# Altium footprint library Leadless.PcbLib: 76 footprints (part 4 of 5)
Each footprint in its own frame and in the unit in brackets; x right, y up, seen from the top. Pads: shape width x height; smd on the part's side, far side on the other; paste and mask are expansions set on the pad; w line width, h text height; cw(c..) or ccw(c..) is an arc to the next point about the centre after c.
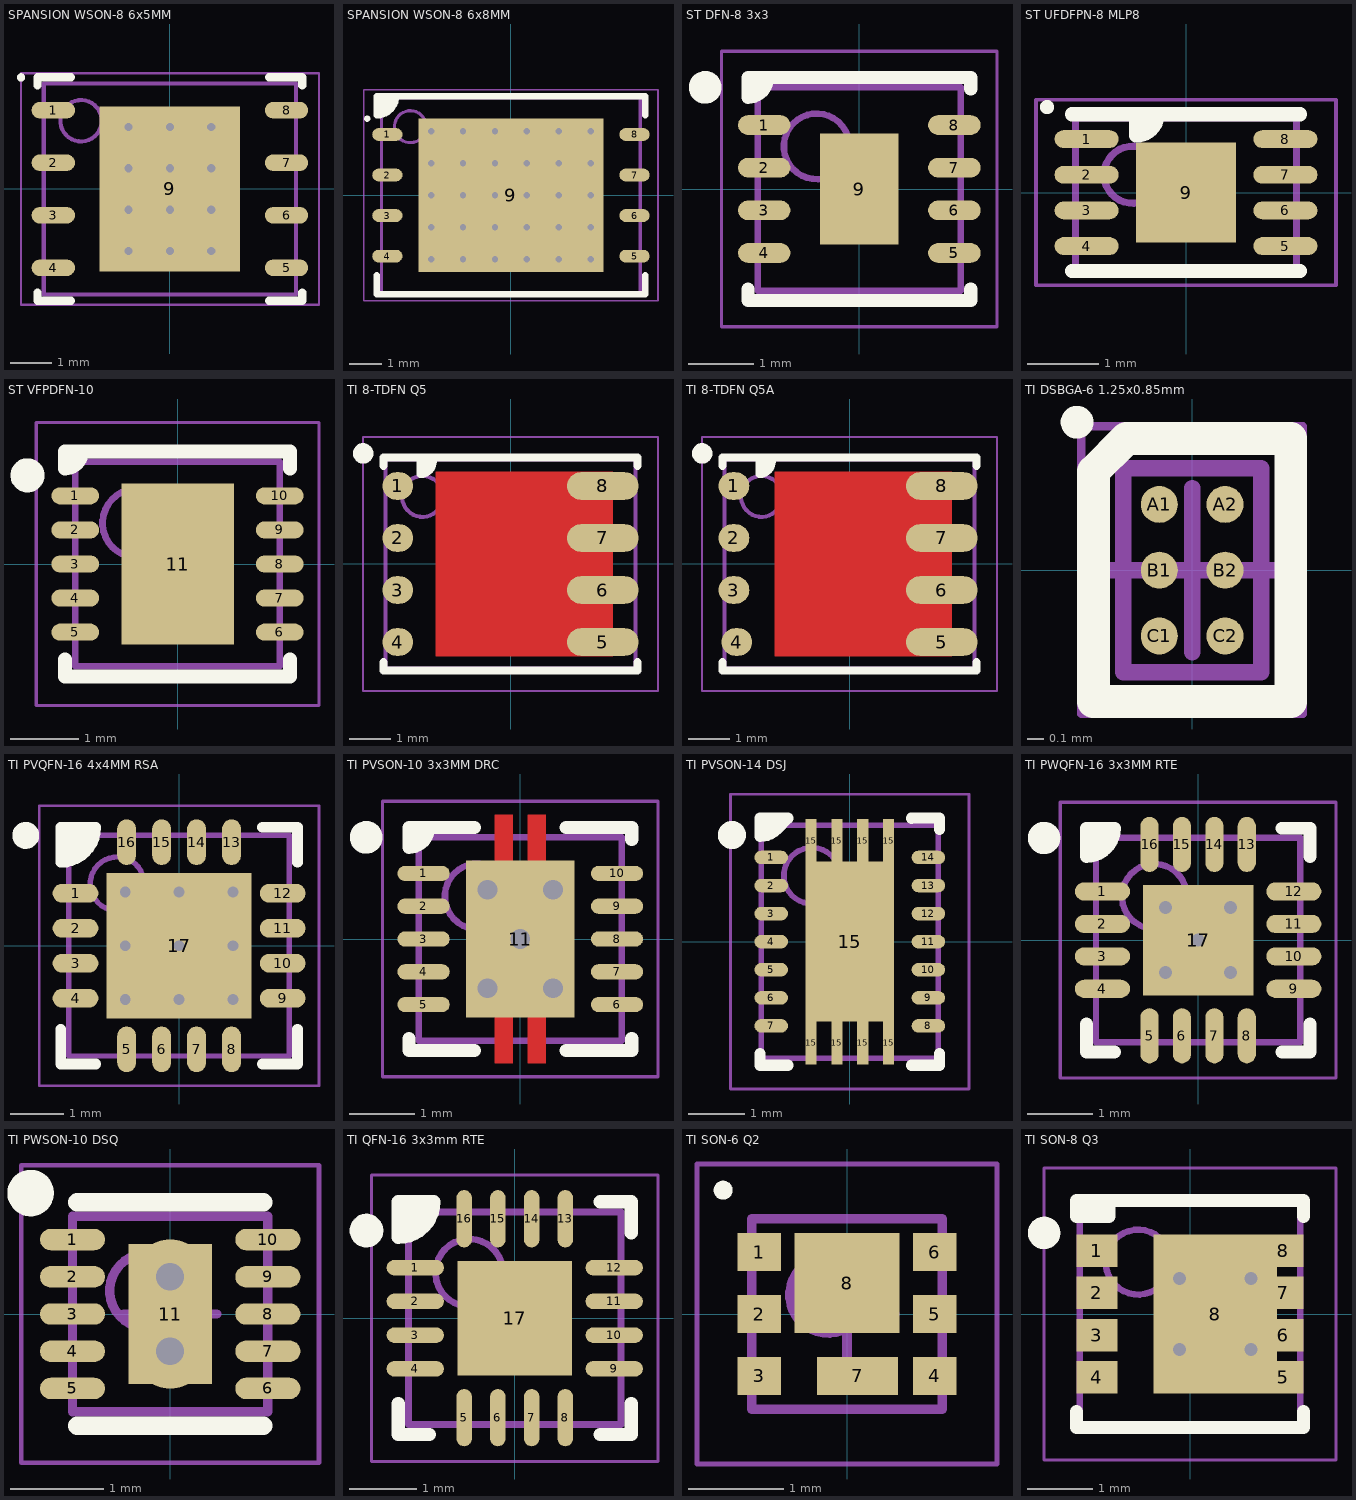
[diagram p3: the footprints below, top view; thin cyan lines are the x and y axes]

## SPANSION WSON-8 6x5MM [mm] "SON, 8-Leads, Body 5.00x6.00mm, Pitch 1.27mm, Thermal Pad 4.00x3.40mm, IPC Medium Density"
height 0.8
pads (9):
  oval 1.05x0.4 smd: 1(-2.82,1.905) 2(-2.82,0.635) 3(-2.82,-0.635) 4(-2.82,-1.905) 5(2.82,-1.905) 6(2.82,-0.635) 7(2.82,0.635) 8(2.82,1.905)
  rect 3.4x4 smd paste-1.7 mask+0: 9(0,0)
via 1,-1.5 diameter 0.5 hole 0.2
via 0,-1.5 diameter 0.5 hole 0.2
via -1,-1.5 diameter 0.5 hole 0.2
via 1,-0.5 diameter 0.5 hole 0.2
via 0,-0.5 diameter 0.5 hole 0.2
via -1,-0.5 diameter 0.5 hole 0.2
via 1,0.5 diameter 0.5 hole 0.2
via 0,0.5 diameter 0.5 hole 0.2
via -1,0.5 diameter 0.5 hole 0.2
via 1,1.5 diameter 0.5 hole 0.2
via 0,1.5 diameter 0.5 hole 0.2
via -1,1.5 diameter 0.5 hole 0.2
Top Overlay:
  circle w0.1: c-3.6,2.7 r0.05
  lines w0.2: -3.2,-2.505 -3.2,-2.7 -2.395,-2.7 ; -3.2,2.505 -3.2,2.7 -2.395,2.7 ; 2.395,-2.7 3.2,-2.7 3.2,-2.505 ; 2.395,2.7 3.2,2.7 3.2,2.505
Top Paste:
  rectangle: 0.665,-1.895 1.595,-0.765
  rectangle: 0.665,-0.565 1.595,0.565
  rectangle: 0.665,0.765 1.595,1.895
  rectangle: -0.465,-1.895 0.465,-0.765
  rectangle: -0.465,-0.565 0.465,0.565
  rectangle: -0.465,0.765 0.465,1.895
  rectangle: -1.595,-1.895 -0.665,-0.765
  rectangle: -1.595,-0.565 -0.665,0.565
  rectangle: -1.595,0.765 -0.665,1.895
Mechanical 13:
  circle w0.1: c-2.15,1.65 r0.5
  lines w0.1: -3.05,-2.55 3.05,-2.55 3.05,2.55 -3.05,2.55 -3.05,-2.55
Mechanical 15:
  lines w0.05: -3.605,-2.8 3.605,-2.8 3.605,2.8 -3.605,2.8 -3.605,-2.8
  lines w0.1: -0.5,0 0.5,0 ; 0,-0.5 0,0.5
3D body: height 0.8, standoff 0, extent -3.05,-2.55 3.05,2.55

## SPANSION WSON-8 6x8MM [mm] "SON, 8-Leads, Body 6.00x8.00mm, Pitch 1.27mm, Thermal Pad 4.80x5.80mm, IPC Medium Density"
height 0.8
pads (9):
  oval 0.95x0.4 smd: 1(-3.87,1.905) 2(-3.87,0.635) 3(-3.87,-0.635) 4(-3.87,-1.905) 5(3.87,-1.905) 6(3.87,-0.635) 7(3.87,0.635) 8(3.87,1.905)
  rect 5.8x4.8 smd paste-2.9 mask+0: 9(0,0)
via 2.5,-2 diameter 0.5 hole 0.2
via 1.5,-2 diameter 0.5 hole 0.2
via 0.5,-2 diameter 0.5 hole 0.2
via -0.5,-2 diameter 0.5 hole 0.2
via -1.5,-2 diameter 0.5 hole 0.2
via -2.5,-2 diameter 0.5 hole 0.2
via 2.5,-1 diameter 0.5 hole 0.2
via 1.5,-1 diameter 0.5 hole 0.2
via 0.5,-1 diameter 0.5 hole 0.2
via -0.5,-1 diameter 0.5 hole 0.2
via -1.5,-1 diameter 0.5 hole 0.2
via -2.5,-1 diameter 0.5 hole 0.2
via 2.5,0 diameter 0.5 hole 0.2
via 1.5,0 diameter 0.5 hole 0.2
via 0.5,0 diameter 0.5 hole 0.2
via -0.5,0 diameter 0.5 hole 0.2
via -1.5,0 diameter 0.5 hole 0.2
via -2.5,0 diameter 0.5 hole 0.2
via 2.5,1 diameter 0.5 hole 0.2
via 1.5,1 diameter 0.5 hole 0.2
via 0.5,1 diameter 0.5 hole 0.2
via -0.5,1 diameter 0.5 hole 0.2
via -1.5,1 diameter 0.5 hole 0.2
via -2.5,1 diameter 0.5 hole 0.2
via 2.5,2 diameter 0.5 hole 0.2
via 1.5,2 diameter 0.5 hole 0.2
via 0.5,2 diameter 0.5 hole 0.2
via -0.5,2 diameter 0.5 hole 0.2
via -1.5,2 diameter 0.5 hole 0.2
via -2.5,2 diameter 0.5 hole 0.2
Top Overlay:
  circle w0.1: c-4.5,2.4 r0.05
  region: -4.2,3.1 -3.588,3.1 -3.635,2.868 -3.766,2.671 -3.963,2.54 -4.195,2.493 -4.195,2.505 -4.2,2.505
  lines w0.2: -4.2,-2.505 -4.2,-3.1 4.2,-3.1 4.2,-2.505 ; -3.6,3.1 cw(c-4.195,3.1) -4.195,2.505 -4.2,2.505 -4.2,3.1 4.2,3.1 4.2,2.505
Top Paste:
  rectangle: 1.55,-2.3 2.8,-1.3
  rectangle: 1.55,-1.1 2.8,-0.1
  rectangle: 1.55,0.1 2.8,1.1
  rectangle: 1.55,1.3 2.8,2.3
  rectangle: 0.1,-2.3 1.35,-1.3
  rectangle: 0.1,-1.1 1.35,-0.1
  rectangle: 0.1,0.1 1.35,1.1
  rectangle: 0.1,1.3 1.35,2.3
  rectangle: -1.35,-2.3 -0.1,-1.3
  rectangle: -1.35,-1.1 -0.1,-0.1
  rectangle: -1.35,0.1 -0.1,1.1
  rectangle: -1.35,1.3 -0.1,2.3
  rectangle: -2.8,-2.3 -1.55,-1.3
  rectangle: -2.8,-1.1 -1.55,-0.1
  rectangle: -2.8,0.1 -1.55,1.1
  rectangle: -2.8,1.3 -1.55,2.3
Mechanical 13:
  circle w0.1: c-3.15,2.15 r0.5
  lines w0.1: -4.05,-3.05 4.05,-3.05 4.05,3.05 -4.05,3.05 -4.05,-3.05
Mechanical 15:
  lines w0.05: -4.605,-3.3 4.605,-3.3 4.605,3.3 -4.605,3.3 -4.605,-3.3
  lines w0.1: -0.5,0 0.5,0 ; 0,-0.5 0,0.5
3D body: height 0.8, standoff 0, extent -4.05,-3.05 4.05,3.05

## ST DFN-8 3x3 [mm] "DFN, 8-Leads, Body 3.00x3.00mm, Pitch 0.65mm, Thermal Pad 1.20x1.70mm, IPC Medium Density"
height 1
pads (9):
  oval 0.8x0.3 smd: 1(-1.45,0.975) 2(-1.45,0.325) 3(-1.45,-0.325) 4(-1.45,-0.975) 5(1.45,-0.975) 6(1.45,-0.325) 7(1.45,0.325) 8(1.45,0.975)
  rect 1.2x1.7 smd: 9(0,0)
Top Overlay:
  circle w0.25: c-2.35,1.55 r0.125
  region: -1.7,1.7 -1.4,1.7 -1.7,1.4
  lines w0.2: -1.7,-1.525 -1.7,-1.7 1.7,-1.7 1.7,-1.525 ; -1.4,1.7 cw(c-1.7,1.7) -1.7,1.4 -1.7,1.7 1.7,1.7 1.7,1.525
Mechanical 13:
  circle w0.1: c-0.65,0.65 r0.5
  lines w0.1: -1.55,-1.55 -1.55,1.55 1.55,1.55 1.55,-1.55 -1.55,-1.55
Mechanical 15:
  lines w0.05: -2.1,-2.1 -2.1,2.1 2.1,2.1 2.1,-2.1 -2.1,-2.1
  lines w0.1: -0.5,0 0.5,0 ; 0,-0.5 0,0.5
3D body: height 1, standoff 0.01, extent -1.55,-1.55 1.55,1.55

## ST UFDFPN-8 MLP8 [mm] "UFDFPN, 8-Leads, Body 2.00x3.00mm, Pitch 0.50mm, Thermal Pad 1.40x1.40mm, IPC Medium Density"
height 0.6
pads (9):
  oval 0.9x0.25 smd: 1(-1.395,0.75) 2(-1.395,0.25) 3(-1.395,-0.25) 4(-1.395,-0.75) 5(1.395,-0.75) 6(1.395,-0.25) 7(1.395,0.25) 8(1.395,0.75)
  rect 1.4x1.4 smd mask+0: 9(0,0)
Top Overlay:
  circle w0.1: c-1.95,1.2 r0.05
  region: -0.4,1.1 -0.7,1.1 -0.7,0.794 -0.583,0.817 -0.484,0.884 -0.417,0.983 -0.394,1.1
  lines w0.2: -1.6,-1.1 1.6,-1.1 ; -1.6,1.1 1.6,1.1 ; -0.7,1.1 -0.7,0.8 ; -0.4,1.1 cw(c-0.7,1.1) -0.7,0.8 ; -0.7,0.8 -0.7,0.8
Mechanical 13:
  circle w0.1: c-0.75,0.25 r0.4
  lines w0.1: -1.55,-1.05 1.55,-1.05 1.55,1.05 -1.55,1.05 -1.55,-1.05
Mechanical 15:
  lines w0.05: -2.105,-1.3 2.105,-1.3 2.105,1.3 -2.105,1.3 -2.105,-1.3
  lines w0.1: -0.5,0 0.5,0 ; 0,-0.5 0,0.5
3D body: height 0.6, standoff 0, extent -1.55,-1.05 1.55,1.05

## ST VFPDFN-10 [mm] "VFPDFN, 10-Leads, Body 3.00x3.00mm, Pitch 0.50mm, Thermal Pad 1.62x2.36mm, IPC Medium Density"
height 1
pads (11):
  oval 0.7x0.25 smd: 1(-1.5,1) 2(-1.5,0.5) 3(-1.5,0) 4(-1.5,-0.5) 5(-1.5,-1) 6(1.5,-1) 7(1.5,-0.5) 8(1.5,0) 9(1.5,0.5) 10(1.5,1)
  rect 1.65x2.36 smd: 11(0,0)
Top Overlay:
  circle w0.25: c-2.2,1.3 r0.125
  region: -1.65,1.65 -1.4,1.65 -1.65,1.4
  lines w0.2: -1.65,-1.4 -1.65,-1.65 1.65,-1.65 1.65,-1.4 ; -1.4,1.65 cw(c-1.65,1.65) -1.65,1.4 -1.65,1.65 1.65,1.65 1.65,1.4
Mechanical 13:
  circle w0.1: c-0.6,0.6 r0.5
  lines w0.1: -1.5,-1.5 1.5,-1.5 1.5,1.5 -1.5,1.5 -1.5,-1.5
Mechanical 15:
  lines w0.05: -2.075,-2.075 2.075,-2.075 2.075,2.075 -2.075,2.075 -2.075,-2.075
  lines w0.1: -0.5,0 0.5,0 ; 0,-0.5 0,0.5
3D body: height 1, standoff 0.01, extent -1.5,-1.5 1.5,1.5

## TI 8-TDFN Q5 [mm] "TDFN, 8-Leads, Body 6.00x5.00mm, Pitch 1.27mm, Thermal Pad, IPC Medium Density"
height 1.05
pads (8):
  oval 0.75x0.675 smd: 1(-2.752,1.905) 2(-2.752,0.635) 3(-2.752,-0.635) 4(-2.752,-1.905)
  oval 1.75x0.675 smd: 5(2.253,-1.905) 6(2.253,-0.635) 7(2.253,0.635) 8(2.253,1.905)
Top Layer:
  region: -1.825,2.25 2.5,2.25 2.5,-2.25 -1.825,-2.25
Top Overlay:
  circle w0.25: c-3.6,2.7 r0.125
  region: -2.2,2.6 -2.2,2.194 -2.083,2.217 -1.984,2.284 -1.917,2.383 -1.894,2.5 -1.9,2.5 -1.9,2.6
  lines w0.2: -3.1,-2.4 -3.1,-2.6 3.1,-2.6 3.1,-2.4 ; -3.1,2.4 -3.1,2.6 3.1,2.6 3.1,2.4 ; -2.2,2.6 -2.2,2.2 ccw(c-2.2,2.5) -1.9,2.5 -1.9,2.6
Mechanical 13:
  circle w0.1: c-2.15,1.65 r0.5
  lines w0.1: -3.05,-2.55 3.05,-2.55 3.05,2.55 -3.05,2.55 -3.05,-2.55
Mechanical 15:
  lines w0.05: -3.6,-3.1 3.6,-3.1 3.6,3.1 -3.6,3.1 -3.6,-3.1
  lines w0.1: -0.5,0 0.5,0 ; 0,-0.5 0,0.5
3D body: height 1.05, standoff 0.01, extent -3.05,-2.55 3.05,2.55

## TI 8-TDFN Q5A [mm] "TDFN, 8-Leads, Body 6.00x5.00mm, Pitch 1.27mm, Thermal Pad, IPC Medium Density"
height 1.05
pads (8):
  oval 0.75x0.675 smd paste-1: 1(-2.822,1.905) 2(-2.822,0.635) 3(-2.822,-0.635) 4(-2.752,-1.905)
  oval 1.75x0.675 smd paste-1: 5(2.253,-1.905) 6(2.253,-0.635) 7(2.253,0.635) 8(2.253,1.905)
Top Layer:
  region: -1.825,2.25 2.5,2.25 2.5,-2.25 -1.825,-2.25
Top Overlay:
  circle w0.25: c-3.6,2.7 r0.125
  region: -2.2,2.6 -2.2,2.194 -2.083,2.217 -1.984,2.284 -1.917,2.383 -1.894,2.5 -1.9,2.5 -1.9,2.6
  lines w0.2: -3.1,-2.4 -3.1,-2.6 3.1,-2.6 3.1,-2.4 ; -3.1,2.4 -3.1,2.6 3.1,2.6 3.1,2.4 ; -2.2,2.6 -2.2,2.2 ccw(c-2.2,2.5) -1.9,2.5 -1.9,2.6
Top Paste:
  rectangle: -1.235,0.31 -0.25,1.88
  rectangle: -1.235,-1.88 -0.25,-0.31
  region: 1.835,-0.31 0.25,-0.31 0.25,-1.88 1.835,-1.88
  region: 1.835,1.88 0.25,1.88 0.25,0.31 1.835,0.31
  rectangle: 2.52,0.385 3.02,0.885
  rectangle: 2.52,-0.885 3.02,-0.385
  region: -2.52,-0.385 -3.02,-0.385 -3.02,-0.885 -2.52,-0.885
  region: -2.52,0.885 -3.02,0.885 -3.02,0.385 -2.52,0.385
  rectangle: 2.52,1.655 3.02,2.155
  rectangle: 2.52,-2.155 3.02,-1.655
  region: -2.52,-1.655 -3.02,-1.655 -3.02,-2.155 -2.52,-2.155
  region: -2.52,2.155 -3.02,2.155 -3.02,1.655 -2.52,1.655
Mechanical 13:
  circle w0.1: c-2.15,1.65 r0.5
  lines w0.1: -3.05,-2.55 3.05,-2.55 3.05,2.55 -3.05,2.55 -3.05,-2.55
Mechanical 15:
  lines w0.05: -3.6,-3.1 3.6,-3.1 3.6,3.1 -3.6,3.1 -3.6,-3.1
  lines w0.1: -0.5,0 0.5,0 ; 0,-0.5 0,0.5
3D body: height 1.05, standoff 0.01, extent -3.05,-2.55 3.05,2.55

## TI DSBGA-6 1.25x0.85mm [mm] "BGA, 6-Leads, Body 0.84x1.24mmx0.68mm, Pitch 0.40mm"
height 0.68
pads (6):
  round 0.225 smd: A1(-0.2,0.4) A2(0.2,0.4) B1(-0.2,0) B2(0.2,0) C1(-0.2,-0.4) C2(0.2,-0.4)
Top Overlay:
  circle w0.1: c-0.7,0.9 r0.05
  lines w0.2: -0.6,-0.8 -0.6,0.6 -0.4,0.8 0.6,0.8 0.6,-0.8 -0.6,-0.8
Mechanical 13:
  lines w0.1: -0.42,-0.62 0.42,-0.62 0.42,0.62 -0.42,0.62 -0.42,-0.62
Mechanical 15:
  lines w0.05: -0.675,-0.875 0.675,-0.875 0.675,0.875 -0.675,0.875 -0.675,-0.875
  lines w0.1: -0.5,0 0.5,0 ; 0,-0.5 0,0.5
3D body: height 0.68, standoff 0.17, extent -0.42,-0.62 0.42,0.62
3D body: height 0.24, standoff -0.02, extent 0.075,-0.525 0.325,-0.275
3D body: height 0.24, standoff -0.02, extent -0.325,-0.525 -0.075,-0.275
3D body: height 0.24, standoff -0.02, extent -0.325,-0.125 -0.075,0.125
3D body: height 0.24, standoff -0.02, extent 0.075,-0.125 0.325,0.125
3D body: height 0.24, standoff -0.02, extent 0.075,0.275 0.325,0.525
3D body: height 0.24, standoff -0.02, extent -0.325,0.275 -0.075,0.525

## TI PVQFN-16 4x4MM RSA [mm] "QFN, 16-Leads, Body 4.00x4.00mm, Pitch 0.65mm, Thermal Pad 2.70x2.70mm, IPC Medium Density"
height 1
pads (17):
  oval 0.85x0.35 smd: 1(-1.925,0.975) 2(-1.925,0.325) 3(-1.925,-0.325) 4(-1.925,-0.975) 9(1.925,-0.975) 10(1.925,-0.325) 11(1.925,0.325) 12(1.925,0.975)
  oval 0.35x0.85 smd: 5(-0.975,-1.925) 6(-0.325,-1.925) 7(0.325,-1.925) 8(0.975,-1.925) 13(0.975,1.925) 14(0.325,1.925) 15(-0.325,1.925) 16(-0.975,1.925)
  rect 2.7x2.7 smd paste-5: 17(0,0)
via -1,0 diameter 0.5 hole 0.2
via -1,-1 diameter 0.5 hole 0.2
via 0,-1 diameter 0.5 hole 0.2
via 1,-1 diameter 0.5 hole 0.2
via 1,0 diameter 0.5 hole 0.2
via 1,1 diameter 0.5 hole 0.2
via 0,1 diameter 0.5 hole 0.2
via -1,1 diameter 0.5 hole 0.2
via 0,0 diameter 0.5 hole 0.2
Top Overlay:
  circle w0.25: c-2.85,2.05 r0.125
  region: -1.55,2.2 -2.2,2.2 -2.2,1.55 -1.95,1.55 -1.6,1.9
  lines w0.2: -2.2,-1.55 -2.2,-2.2 -1.55,-2.2 ; 1.55,-2.2 2.2,-2.2 2.2,-1.55 ; 1.55,2.2 2.2,2.2 2.2,1.55 ; -2.2,1.55 ccw(c-2.2,2.2) -1.55,2.2 -2.2,2.2 -2.2,1.55
Top Paste:
  region: -0.15,-0.15 -1.25,-0.15 -1.25,-0.725 -0.725,-1.25 -0.15,-1.25
  region: 0.15,-0.15 1.25,-0.15 1.25,-0.725 0.725,-1.25 0.15,-1.25
  region: 0.15,0.15 0.15,1.25 0.725,1.25 1.25,0.725 1.25,0.15
  region: -0.15,0.15 -1.25,0.15 -1.25,0.725 -0.725,1.25 -0.15,1.25
Mechanical 13:
  circle w0.1: c-1.15,1.15 r0.5
  lines w0.1: -2.05,-2.05 2.05,-2.05 2.05,2.05 -2.05,2.05 -2.05,-2.05
Mechanical 15:
  lines w0.05: -2.6,-2.6 2.6,-2.6 2.6,2.6 -2.6,2.6 -2.6,-2.6
  lines w0.1: -0.5,0 0.5,0 ; 0,-0.5 0,0.5
3D body: height 1, standoff 0.01, extent -2.05,-2.05 2.05,2.05

## TI PVSON-10 3x3MM DRC [mm] "PVSON, 10-Leads, Body 3.00x3.00mm, Pitch 0.50mm, Thermal Pad 1.65x2.40mm, IPC Medium Density"
height 1
pads (11):
  oval 0.8x0.23 smd: 1(-1.475,1) 2(-1.475,0.5) 3(-1.475,0) 4(-1.475,-0.5) 5(-1.475,-1) 6(1.475,-1) 7(1.475,-0.5) 8(1.475,0) 9(1.475,0.5) 10(1.475,1)
  rect 1.65x2.4 smd paste-5: 11(0,0)
via 0,0 diameter 0.6 hole 0.3
via 0.5,-0.75 diameter 0.6 hole 0.3
via -0.5,-0.75 diameter 0.6 hole 0.3
via -0.5,0.75 diameter 0.6 hole 0.3
via 0.5,0.75 diameter 0.6 hole 0.3
Top Layer:
  rectangle: 0.11,-1.9 0.39,-1.1
  region: -0.11,-1.1 -0.39,-1.1 -0.39,-1.9 -0.11,-1.9
  region: -0.11,1.9 -0.39,1.9 -0.39,1.1 -0.11,1.1
  rectangle: 0.11,1.1 0.39,1.9
Top Overlay:
  circle w0.25: c-2.35,1.55 r0.125
  region: -1.7,1.7 -1.4,1.7 -1.7,1.4
  lines w0.2: -1.7,-1.515 -1.7,-1.7 -0.7,-1.7 ; -1.4,1.7 cw(c-1.7,1.7) -1.7,1.4 ; -0.7,1.7 -1.7,1.7 -1.7,1.4 ; 0.7,-1.7 1.7,-1.7 1.7,-1.515 ; 0.7,1.7 1.7,1.7 1.7,1.515 ; -1.7,1.4 -1.7,1.4
Top Paste:
  rectangle: -0.79,0.11 -0.11,1.06
  region: 0.79,1.06 0.11,1.06 0.11,0.11 0.79,0.11
  region: 0.79,-0.11 0.11,-0.11 0.11,-1.06 0.79,-1.06
  rectangle: -0.79,-1.06 -0.11,-0.11
  rectangle: -0.38,1.38 -0.12,1.88
  region: 0.38,1.88 0.12,1.88 0.12,1.38 0.38,1.38
  region: 0.38,-1.38 0.12,-1.38 0.12,-1.88 0.38,-1.88
  rectangle: -0.38,-1.88 -0.12,-1.38
Mechanical 13:
  circle w0.1: c-0.65,0.65 r0.5
  lines w0.1: -1.55,-1.55 -1.55,1.55 1.55,1.55 1.55,-1.55 -1.55,-1.55
Mechanical 15:
  lines w0.05: -2.1,-2.1 -2.1,2.1 2.1,2.1 2.1,-2.1 -2.1,-2.1
  lines w0.1: -0.5,0 0.5,0 ; 0,-0.5 0,0.5
3D body: height 1, standoff 0.01, extent -1.55,-1.55 1.55,1.55

## TI PVSON-14 DSJ [mm] "VSON, 14-Leads, Body 3.00x4.00mm, Pitch 0.50mm, Thermal Pad 1.58x2.85mm, IPC Medium Density"
height 1
pads (23):
  oval 0.6x0.24 smd: 1(-1.4,1.5) 2(-1.4,1) 3(-1.4,0.5) 4(-1.4,0) 5(-1.4,-0.5) 6(-1.4,-1) 7(-1.4,-1.5) 8(1.4,-1.5) 9(1.4,-1) 10(1.4,-0.5) 11(1.4,0) 12(1.4,0.5) 13(1.4,1) 14(1.4,1.5)
  rect 0.2x0.775 smd: 15(-0.69,-1.8) 15(-0.69,1.8) 15(-0.23,-1.8) 15(-0.23,1.8) 15(0.23,-1.8) 15(0.23,1.8) 15(0.69,-1.8) 15(0.69,1.8)
  rect 1.58x2.85 smd: 15(0,0)
Top Overlay:
  circle w0.25: c-2.1,1.9 r0.125
  region: -1.6,2.2 -1.1,2.2 -1.425,1.875 -1.6,1.875
  lines w0.2: -1.6,-1.995 -1.6,-2.2 -1.1,-2.2 ; 1.1,-2.2 1.6,-2.2 1.6,-1.995 ; 1.1,2.2 cw(c1.112,2.188) 1.112,2.205 1.6,2.205 1.6,2 ; -1.6,1.875 ccw(c-1.6,2.297) -1.301,1.999 -1.1,2.2 -1.6,2.2 -1.6,1.875
Mechanical 13:
  circle w0.1: c-0.675,1.175 r0.5
  lines w0.1: -1.575,-2.075 1.575,-2.075 1.575,2.075 -1.575,2.075 -1.575,-2.075
Mechanical 15:
  lines w0.05: -2.125,-2.625 2.125,-2.625 2.125,2.625 -2.125,2.625 -2.125,-2.625
  lines w0.1: -0.5,0 0.5,0 ; 0,-0.5 0,0.5
3D body: height 1, standoff 0.08, extent -1.575,-2.075 1.575,2.075

## TI PWQFN-16 3x3MM RTE [mm] "QFN, 16-Leads, Body 3.00x3.00mm, Pitch 0.50mm, Thermal Pad 1.70x1.70mm, IPC Medium Density"
height 0.8
pads (17):
  oval 0.85x0.28 smd: 1(-1.475,0.75) 2(-1.475,0.25) 3(-1.475,-0.25) 4(-1.475,-0.75) 9(1.475,-0.75) 10(1.475,-0.25) 11(1.475,0.25) 12(1.475,0.75)
  oval 0.28x0.85 smd: 5(-0.75,-1.475) 6(-0.25,-1.475) 7(0.25,-1.475) 8(0.75,-1.475) 13(0.75,1.475) 14(0.25,1.475) 15(-0.25,1.475) 16(-0.75,1.475)
  rect 1.7x1.7 smd: 17(0,0)
via -0.5,-0.5 diameter 0.5 hole 0.2
via 0.5,0.5 diameter 0.5 hole 0.2
via -0.5,0.5 diameter 0.5 hole 0.2
via 0,0 diameter 0.5 hole 0.2
via 0.5,-0.5 diameter 0.5 hole 0.2
Top Overlay:
  circle w0.25: c-2.375,1.575 r0.125
  region: -1.29,1.725 -1.725,1.725 -1.725,1.29 -1.51,1.29 -1.4,1.4
  lines w0.2: -1.725,-1.29 -1.725,-1.725 -1.29,-1.725 ; 1.29,-1.725 1.725,-1.725 1.725,-1.29 ; 1.29,1.725 1.725,1.725 1.725,1.29 ; -1.725,1.29 ccw(c-1.725,1.725) -1.29,1.725 -1.725,1.725 -1.725,1.29
Mechanical 13:
  circle w0.1: c-0.675,0.675 r0.5
  lines w0.1: -1.575,-1.575 -1.575,1.575 1.575,1.575 1.575,-1.575 -1.575,-1.575
Mechanical 15:
  lines w0.05: -2.125,-2.125 -2.125,2.125 2.125,2.125 2.125,-2.125 -2.125,-2.125
  lines w0.1: -0.5,0 0.5,0 ; 0,-0.5 0,0.5
3D body: height 0.8, standoff 0.01, extent -1.575,-1.575 1.575,1.575

## TI PWSON-10 DSQ [mm] "DFN, 10-Leads, Body 2.00x2.00mm, Pitch 0.40mm, Thermal Pad 0.70x1.20mm, IPC Medium Density"
height 0.8
pads (11):
  oval 0.7x0.23 smd: 1(-1.05,0.8) 2(-1.05,0.4) 3(-1.05,0) 4(-1.05,-0.4) 5(-1.05,-0.8) 6(1.05,-0.8) 7(1.05,-0.4) 8(1.05,0) 9(1.05,0.4) 10(1.05,0.8)
  rect 0.9x1.5 smd mask-0.15: 11(0,0)
via 0,-0.4 diameter 0.8 hole 0.3
via 0,0.4 diameter 0.8 hole 0.3
Top Overlay:
  circle w0.25: c-1.5,1.3 r0.125
  lines w0.2: -1,-1.2 1,-1.2 ; -1,1.2 1,1.2
Mechanical 13:
  circle w0.1: c-0.25,0.25 r0.4
  lines w0.1: -1.05,-1.05 -1.05,1.05 1.05,1.05 1.05,-1.05 -1.05,-1.05
Mechanical 15:
  lines w0.05: -1.6,-1.6 -1.6,1.6 1.6,1.6 1.6,-1.6 -1.6,-1.6
  lines w0.1: -0.5,0 0.5,0 ; 0,-0.5 0,0.5
3D body: height 0.8, standoff 0.01, extent -1.05,-1.05 1.05,1.05

## TI QFN-16 3x3mm RTE [mm] "QFN, 16-Leads, Body 3.00x3.00mm, Pitch 0.50mm, Thermal Pad 1.70x1.70mm, IPC Medium Density"
height 0.8
pads (17):
  oval 0.85x0.23 smd: 1(-1.475,0.75) 2(-1.475,0.25) 3(-1.475,-0.25) 4(-1.475,-0.75) 9(1.475,-0.75) 10(1.475,-0.25) 11(1.475,0.25) 12(1.475,0.75)
  oval 0.23x0.85 smd: 5(-0.75,-1.475) 6(-0.25,-1.475) 7(0.25,-1.475) 8(0.75,-1.475) 13(0.75,1.475) 14(0.25,1.475) 15(-0.25,1.475) 16(-0.75,1.475)
  rect 1.7x1.7 smd: 17(0,0)
Top Overlay:
  circle w0.25: c-2.2,1.3 r0.125
  region: -1.2,1.725 -1.725,1.725 -1.725,1.2 -1.5,1.2 -1.3,1.4
  lines w0.2: -1.725,-1.265 -1.725,-1.725 -1.265,-1.725 ; 1.265,-1.725 1.725,-1.725 1.725,-1.265 ; 1.265,1.725 1.725,1.725 1.725,1.265 ; -1.725,1.2 ccw(c-1.725,1.725) -1.2,1.725 -1.725,1.725 -1.725,1.2
Mechanical 13:
  circle w0.1: c-0.675,0.675 r0.5
  lines w0.1: -1.575,-1.575 -1.575,1.575 1.575,1.575 1.575,-1.575 -1.575,-1.575
Mechanical 15:
  lines w0.05: -2.125,-2.125 -2.125,2.125 2.125,2.125 2.125,-2.125 -2.125,-2.125
  lines w0.1: -0.5,0 0.5,0 ; 0,-0.5 0,0.5
3D body: height 0.8, standoff 0, extent -1.575,-1.575 1.575,1.575

## TI SON-6 Q2 [mm] "SON, 6-Leads, Body 2.00x2.00mm, Pitch 0.65mm, Thermal Pad 1.10x1.05mm, IPC Medium Density"
height 0.8
pads (8):
  rect 0.455x0.4 smd: 1(-0.923,0.65) 2(-0.923,0) 3(-0.923,-0.65) 4(0.923,-0.65) 5(0.923,0) 6(0.923,0.65)
  rect 0.85x0.4 smd: 7(0.111,-0.65)
  rect 1.1x1.05 smd: 8(0,0.325)
Top Overlay:
  circle w0.1: c-1.3,1.3 r0.05
Mechanical 13:
  circle w0.1: c-0.2,0.2 r0.4
  lines w0.1: -1,-1 1,-1 1,1 -1,1 -1,-1
Mechanical 15:
  lines w0.05: -1.575,-1.575 1.575,-1.575 1.575,1.575 -1.575,1.575 -1.575,-1.575
  lines w0.1: -0.5,0 0.5,0 ; 0,-0.5 0,0.5
3D body: height 0.8, standoff 0.01, extent -1,-1 1,1

## TI SON-8 Q3 [mm] "SON, 8-Leads, Body 3.30x3.30mm, Pitch 0.65mm, Thermal Pad 1.90x2.45mm, IPC Medium Density"
height 1.1
pads (9):
  rect 0.63x0.5 smd paste-3: 1(-1.435,0.975) 2(-1.435,0.325) 3(-1.435,-0.325) 4(-1.435,-0.975) 5(1.435,-0.975) 6(1.435,-0.325) 7(1.435,0.325) 8(1.435,0.975)
  rect 1.9x2.45 smd paste-3: 8(0.39,0)
via 0.94,-0.55 diameter 0.5 hole 0.2
via -0.16,-0.55 diameter 0.5 hole 0.2
via 0.94,0.55 diameter 0.5 hole 0.2
via -0.16,0.55 diameter 0.5 hole 0.2
Top Overlay:
  circle w0.25: c-2.25,1.25 r0.125
  rectangle: -1.75,1.5 -1.25,1.75
  lines w0.2: -1.75,-1.5 -1.75,-1.75 1.75,-1.75 1.75,-1.5 ; -1.25,1.75 -1.25,1.5 -1.75,1.5 -1.75,1.75 1.75,1.75 1.75,1.5
Top Paste:
  rectangle: 1.21,-1.13 1.66,-0.82
  region: -1.21,-0.82 -1.66,-0.82 -1.66,-1.13 -1.21,-1.13
  rectangle: 1.21,0.17 1.66,0.48
  region: -1.21,0.48 -1.66,0.48 -1.66,0.17 -1.21,0.17
  region: -1.21,1.13 -1.66,1.13 -1.66,0.82 -1.21,0.82
  region: -1.21,-0.17 -1.66,-0.17 -1.66,-0.48 -1.21,-0.48
  rectangle: 1.21,-0.48 1.66,-0.17
  rectangle: 1.21,0.82 1.66,1.13
  rectangle: -0.46,-1.27 0.985,-0.125
  rectangle: -0.46,0.125 0.985,1.27
Mechanical 13:
  circle w0.1: c-0.8,0.8 r0.5
  lines w0.1: -1.7,-1.7 1.7,-1.7 1.7,1.7 -1.7,1.7 -1.7,-1.7
Mechanical 15:
  lines w0.05: -2.25,-2.25 2.25,-2.25 2.25,2.25 -2.25,2.25 -2.25,-2.25
  lines w0.1: -0.5,0 0.5,0 ; 0,-0.5 0,0.5
3D body: height 1.1, standoff 0, extent -1.71,-1.7 1.71,1.7